# Altium schematic symbol library TPS53319DQPR.SchLib: 1 symbol
Pins are listed as number, name and electrical type; pins without a type are passive.

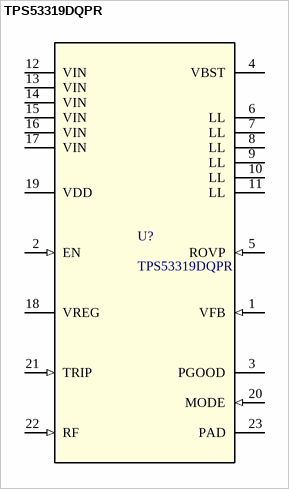
[diagram p0: symbol TPS53319DQPR]

## TPS53319DQPR
designator U?
1.5-V to 22-V, 14-A synchronous buck converter with eco-mode 22-LSON-CLIP -40 to 125; Manufacturer_Name: Texas Instruments; TYPE: TYPE; RefDes: RefDes; Copyright: Copyright (C) 2025 Ultra Librarian. All rights reserved.; Manufacturer_Part_Number: TPS53319DQPR
footprint DQP0022A
pins: 1 VFB (in), 2 EN (in), 3 PGOOD (oc), 4 VBST (power), 5 ROVP (in), 6 LL (power), 7 LL (power), 8 LL (power), 9 LL (power), 10 LL (power), 11 LL (power), 12 VIN (power), 13 VIN (power), 14 VIN (power), 15 VIN (power), 16 VIN (power), 17 VIN (power), 18 VREG, 19 VDD (power), 20 MODE (in), 21 TRIP (in), 22 RF (in), 23 PAD (power)